# EAGLE library part FSUSB43 (library ic-Fairchild)
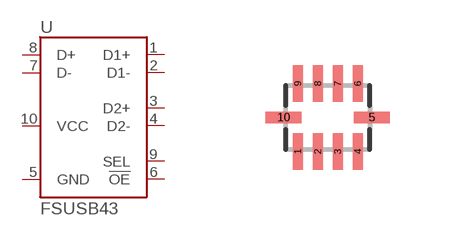
[diagram p0: symbol with the pads of MICROPAK10; footprint MICROPAK10]

Designator prefix U

## FSUSB43  [MICROPAK10]
1  D1+
2  D1-
3  D2+
4  D2-
5  GND
6  !OE
7  D-
8  D+
9  SEL
10  VCC

## Footprint MICROPAK10 (pad centres in mm)
smd 0.25 x 0.9: 1 -0.75,-0.85; 2 -0.25,-0.85; 3 0.25,-0.85; 4 0.75,-0.85; 6 0.75,0.85; 7 0.25,0.85; 8 -0.25,0.85; 9 -0.75,0.85
smd 0.9 x 0.3: 5 1.1,0; 10 -1.1,0